# EAGLE library part TPS61020 (library SophiEaglev9)
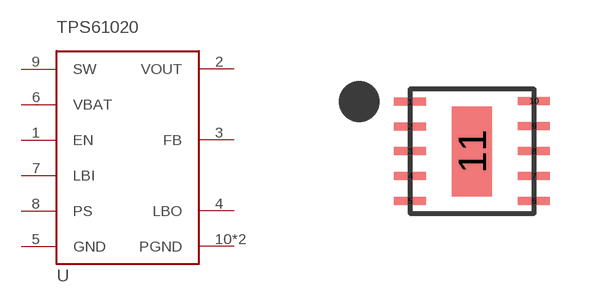
[diagram p15: symbol with the pads of VSON10; footprint VSON10]

Designator prefix -

## TPS61020  [VSON10]
1  EN
2  VOUT
3  FB
4  LBO
5  GND
6  VBAT
7  LBI
8  PS
9  SW
10  PGND
11  PGND

## Footprint VSON10 (pad centres in mm)
smd 0.8 x 0.2: 1 0,2.79; 2 0,2.17; 3 0,1.55; 4 0,0.93; 5 0,0.31; 6 3.1,0.31; 7 3.1,0.93; 8 3.1,1.55; 9 3.1,2.18; 10 3.1,2.81
smd 1 x 2.25: 11 1.55,1.55